# EAGLE library part XR-1094P (library exar)
EQUALIZER DISPLAY/FILTER/MULTIPLEXER
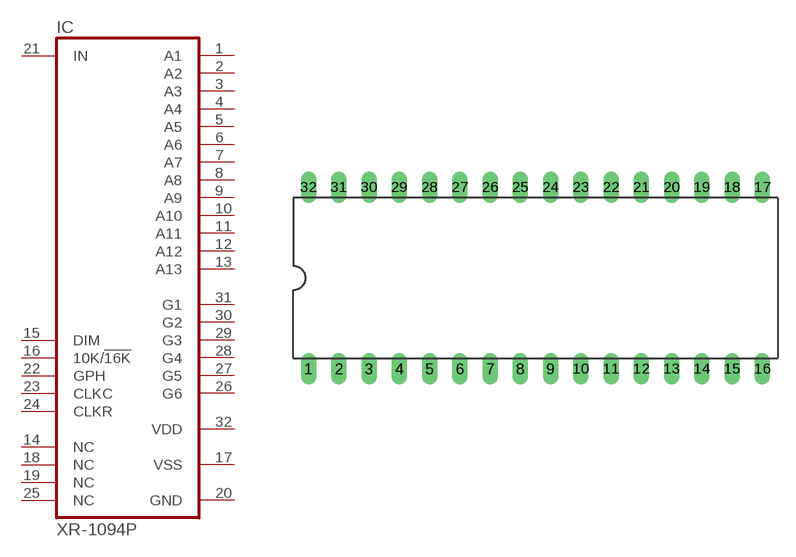
[diagram p88: symbol with the pads of DIL32; footprint DIL32]

Designator prefix IC

## XR-1094P (OC_FARNELL: unknown; OC_NEWARK: unknown)  [DIL32]
1  A1  out
2  A2  out
3  A3  out
4  A4  out
5  A5  out
6  A6  out
7  A7  out
8  A8  out
9  A9  out
10  A10  out
11  A11  out
12  A12  out
13  A13  out
14  NC  nc
15  DIM  in
16  10K/!16K  in
17  VSS  pwr
18  NC  nc
19  NC  nc
20  GND  pwr
21  IN  in
22  GPH  in
23  CLKC  in
24  CLKR  in
25  NC  nc
26  G6  out
27  G5  out
28  G4  out
29  G3  out
30  G2  out
31  G1  out
32  VDD  pwr

## Footprint DIL32 (pad centres in mm)
Dual In Line Package
drill 0.813 long: 1 -19.05,-7.62; 2 -16.51,-7.62; 3 -13.97,-7.62; 4 -11.43,-7.62; 5 -8.89,-7.62; 6 -6.35,-7.62; 7 -3.81,-7.62; 8 -1.27,-7.62; 9 1.27,-7.62; 10 3.81,-7.62; 11 6.35,-7.62; 12 8.89,-7.62; 13 11.43,-7.62; 14 13.97,-7.62; 15 16.51,-7.62; 16 19.05,-7.62; 17 19.05,7.62; 18 16.51,7.62; 19 13.97,7.62; 20 11.43,7.62; 21 8.89,7.62; 22 6.35,7.62; 23 3.81,7.62; 24 1.27,7.62; 25 -1.27,7.62; 26 -3.81,7.62; 27 -6.35,7.62; 28 -8.89,7.62; 29 -11.43,7.62; 30 -13.97,7.62; 31 -16.51,7.62; 32 -19.05,7.62